# Altium schematic symbol library USB-hub.SchLib: 8 symbols
Pins are listed as number, name and electrical type; pins without a type are passive.

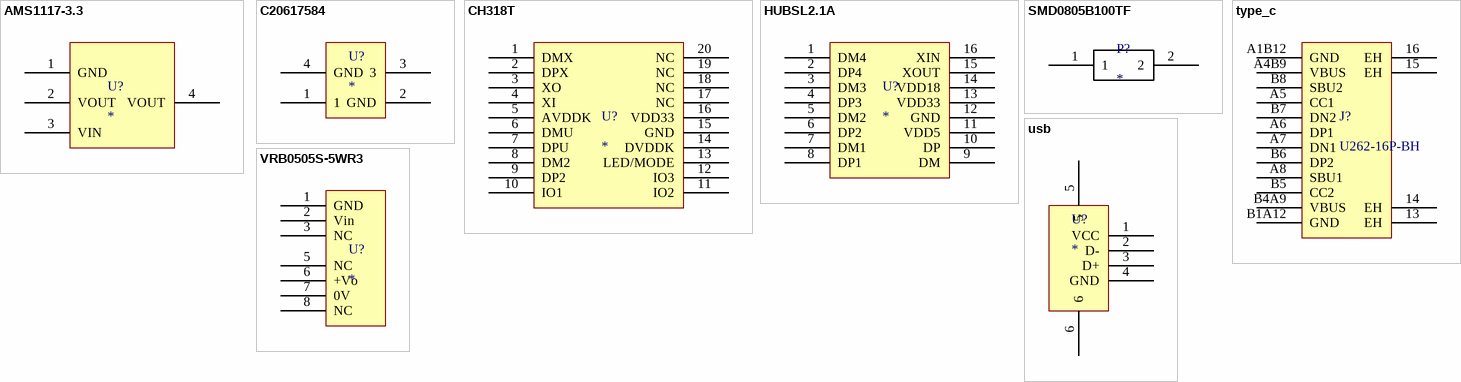
[diagram p0: symbols AMS1117-3.3 to VRB0505S‑5WR3]

## AMS1117-3.3
designator U?
footprint AMS1117-3.3
pins: 1 GND, 2 VOUT, 3 VIN, 4 VOUT

## C20617584
designator U?
footprint C20617584
pins: 1, 2 GND, 3, 4 GND

## CH318T
designator U?
footprint CH318T
pins: 1 DMX, 2 DPX, 3 XO, 4 XI, 5 AVDDK, 6 DMU, 7 DPU, 8 DM2, 9 DP2, 10 IO1, 11 IO2, 12 IO3, 13 LED/MODE, 14 DVDDK, 15 GND, 16 VDD33, 17 NC, 18 NC, 19 NC, 20 NC

## HUBSL2.1A
designator U?
footprint HUBSL2.1A
pins: 1 DM4, 2 DP4, 3 DM3, 4 DP3, 5 DM2, 6 DP2, 7 DM1, 8 DP1, 9 DM, 10 DP, 11 VDD5, 12 GND, 13 VDD33, 14 VDD18, 15 XOUT, 16 XIN

## SMD0805B100TF
designator P?
footprint SMD0805B100TF
pins: 1, 2

## type_c
designator J?, comment U262‑16P‑BH
footprint USB-hub
pins: 13 EH, 14 EH, 15 EH, 16 EH, A1B12 GND, A4B9 VBUS, A5 CC1, A6 DP1, A7 DN1, A8 SBU1, B1A12 GND, B4A9 VBUS, B5 CC2, B6 DP2, B7 DN2, B8 SBU2

## usb
designator U?
footprint usb
pins: 1 VCC, 2 D-, 3 D+, 4 GND, 5, 6

## VRB0505S‑5WR3
designator U?
footprint VRB0505S_5WR3
pins: 1 GND, 2 Vin, 3 NC, 5 NC, 6 +Vo, 7 0V, 8 NC